# Altium footprint library SignalCommunications.PCBLIB: 466 footprints (part 15 of 30)
Each footprint in its own frame and in the unit in brackets; x right, y up, seen from the top. Pads: shape width x height; smd on the part's side, far side on the other; paste and mask are expansions set on the pad; w line width, h text height; cw(c..) or ccw(c..) is an arc to the next point about the centre after c.
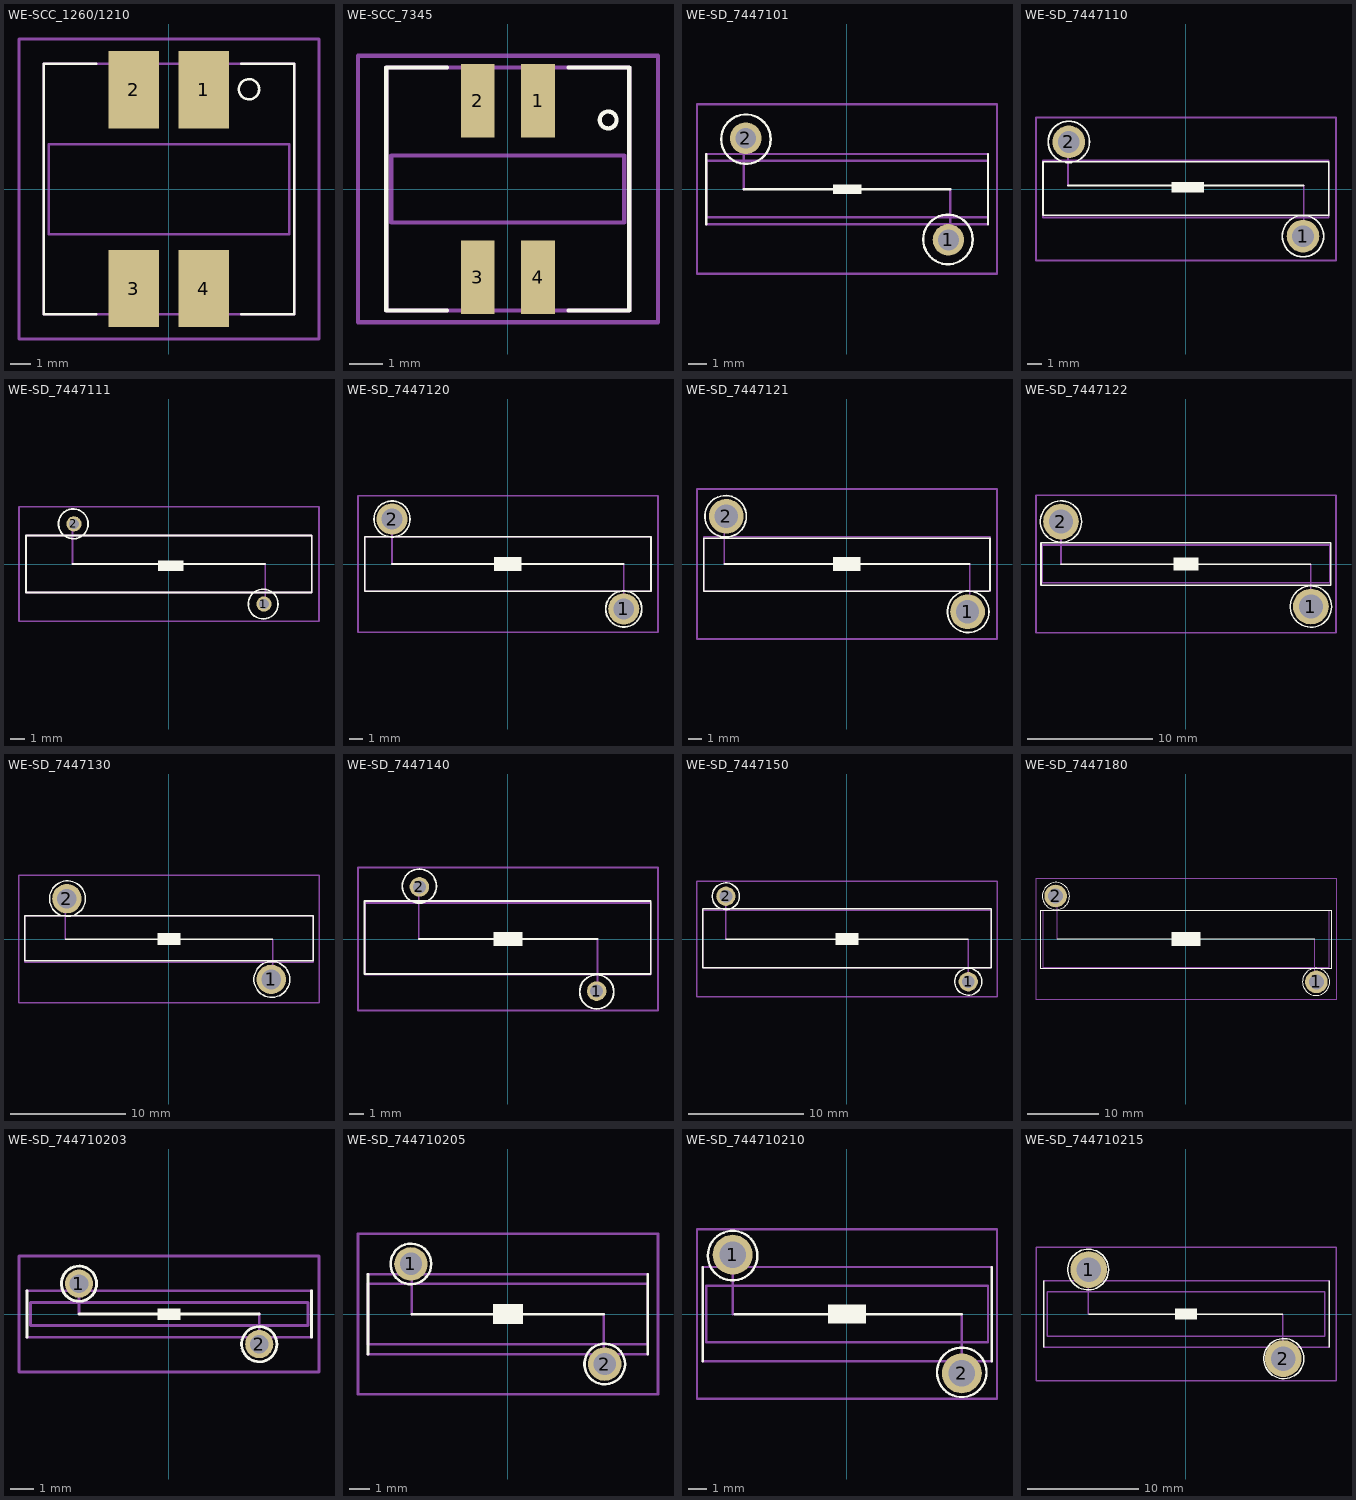
[diagram p14: the footprints below, top view; thin cyan lines are the x and y axes]

## WE-SCC_1260/1210 [mil]
pads (4):
  rect 99x152 smd: 1(69,196) 2(-68.9,196) 3(-68.9,-195.87) 4(69,-195.87)
Top Overlay:
  circle w5: c158,197 r20
  lines w5: -142.72,-246.06 -246.06,-246.06 -246.06,247 -142.72,247 ; 143,-246.06 247,-246.06 247,247 143,247
Mechanical 10:
  lines w5: -236.22,-88.58 -236.22,89 237,89 237,-88.58 -236.22,-88.58
Mechanical 16:
  lines w5: -246.06,-246.06 -246.06,247 247,247 247,-246.06 -246.06,-246.06
  text "1" at 138,99 h77.5
Mechanical 27:
  lines w5: -295.28,-295.28 -295.28,296 296,296 296,-295.28 -295.28,-295.28

## WE-SCC_7345 [mil]
pads (4):
  rect 40x87 smd: 1(36,105) 2(-35.43,105) 3(-35.43,-104.33) 4(36,-104.33)
Top Overlay:
  circle w5: c119,82 r10
  lines w5: -71.85,-143.7 -143.7,-143.7 -143.7,144 -71.85,144 ; 72,-143.7 144,-143.7 144,144 72,144
Mechanical 10:
  lines w5: -137.8,-39.37 -137.8,40 138,40 138,-39.37 -137.8,-39.37
Mechanical 16:
  lines w5: -143.7,-143.7 144,-143.7 144,144 -143.7,144 -143.7,-143.7
Mechanical 27:
  lines w5: -177.17,-157.48 -177.17,158 178,158 178,-157.48 -177.17,-157.48

## WE-SD_7447101 [mil]
pads (2):
  round 66 hole 44: 1(213,-106.3) 2(-212.6,107)
Top Overlay:
  circle w5: c212,-105.51 r52
  circle w5: c-212.2,105 r52
  region: 30,10 -29.53,10 -29.53,-9.84 30,-9.84
  lines w5: -295.28,-73.23 -295.28,74 ; -216.54,0 217,0 ; 296,-73.23 296,74
Mechanical 10:
  lines w5: -295.28,-59.06 -295.28,60 296,60 296,-59.06 -295.28,-59.06
Mechanical 16:
  lines w5: -295.28,-73.23 296,-73.23 ; -295.28,74 296,74 ; -216.54,0 -216.54,109 ; 217,-108.27 217,0
Mechanical 27:
  lines w5: -314.96,-177.17 -314.96,178 315,178 315,-177.17 -314.96,-177.17

## WE-SD_7447110 [mil]
pads (2):
  round 90 hole 60: 1(323,-129.92) 2(-322.83,130)
Top Overlay:
  circle w5: c323,-129.92 r57
  circle w5: c-322.83,130 r57
  region: 50,20 -39.37,20 -39.37,-9.84 50,-9.84
  lines w5: -324.8,10 325,10 ; -393.7,-72.05 -393.7,75 394,75 394,-72.83 -393.7,-72.05
Mechanical 10:
  lines w5: -393.7,-78.74 -393.7,79 394,79 394,-78.74 -393.7,-78.74
Mechanical 16:
  lines w5: -324.8,10 -324.8,128 ; 325,-127.95 325,10
Mechanical 27:
  lines w5: -413.39,-196.85 414,-196.85 414,197 -413.39,197 -413.39,-196.85

## WE-SD_7447111 [mil]
pads (2):
  round 42 hole 28: 1(262,-110.24) 2(-261.81,111)
Top Overlay:
  circle w5: c260,-110.24 r41
  circle w5: c-263.78,111 r41
  region: 40,10 -29.53,10 -29.53,-19.68 40,-19.69
  lines w5: -265.75,0 266,0 ; -393.7,-78.74 -393.7,79 394,79 394,-78.74 -393.7,-78.74
Mechanical 10:
  lines w5: -393.7,-78.74 394,-78.74 394,79 -393.7,79 -393.7,-78.74
Mechanical 16:
  lines w5: -265.75,0 -265.75,109 ; 266,-108.27 266,0
Mechanical 27:
  lines w5: -413.39,-157.48 414,-157.48 414,158 -413.39,158 -413.39,-157.48

## WE-SD_7447120 [mil]
pads (2):
  round 90 hole 60: 1(335,-129.92) 2(-334.65,130)
Top Overlay:
  circle w5: c335,-129.92 r52
  circle w5: c-334.65,130 r52
  region: 40,20 -39.37,20 -39.37,-19.68 40,-19.69
  lines w5: -334.65,0 335,0 ; -413.39,-78.74 -413.39,79 414,79 414,-78.74 -413.39,-78.74
Mechanical 10:
  lines w5: -413.39,-78.74 414,-78.74 414,79 -413.39,79 -413.39,-78.74
Mechanical 16:
  lines w5: -334.65,0 -334.65,138 ; 335,-118.11 335,0
Mechanical 27:
  lines w5: -433.07,-196.85 434,-196.85 434,197 -433.07,197 -433.07,-196.85

## WE-SD_7447121 [mil]
pads (2):
  round 100.5 hole 67: 1(349,-137.8) 2(-348.43,138)
Top Overlay:
  circle w5: c351,-137.8 r60
  circle w5: c-350.39,138 r60
  region: 40,20 -39.37,20 -39.37,-19.68 40,-19.69
  lines w5: -354.33,0 355,0 ; 410,-78.74 -413.39,-78.74 -413.39,75 414,75 414,-76.77
Mechanical 10:
  lines w5: -413.39,-78.74 414,-78.74 414,79 -413.39,79 -413.39,-78.74
Mechanical 16:
  lines w5: -354.33,0 -354.33,138 ; 355,-137.8 355,0
Mechanical 27:
  lines w5: -433.07,-216.54 434,-216.54 434,217 -433.07,217 -433.07,-216.54

## WE-SD_7447122 [mil]
pads (2):
  round 112.5 hole 75: 1(394,-133.86) 2(-393.7,134)
Top Overlay:
  circle w5: c394,-133.86 r65
  circle w5: c-393.7,134 r65
  region: 40,20 -39.37,20 -39.37,-19.68 40,-19.69
  lines w5: -393.7,0 394,0 ; -456.69,-66.93 -456.69,67 457,67 457,-66.93 -456.69,-66.93
Mechanical 10:
  lines w5: -452.76,-59.06 453,-59.06 453,60 -452.76,60 -452.76,-59.06
Mechanical 16:
  lines w5: -393.7,0 -393.7,138 ; 394,-137.8 394,0
Mechanical 27:
  lines w5: -472.44,-216.54 473,-216.54 473,217 -472.44,217 -472.44,-216.54

## WE-SD_7447130 [mil]
pads (2):
  round 100.5 hole 67: 1(349,-137.8) 2(-348.43,138)
Top Overlay:
  circle w5: c351,-137.8 r61
  circle w5: c-346.46,138 r61
  region: 40,20 -39.37,20 -39.37,-19.68 40,-19.69
  lines w5: -354.33,0 355,0 ; -492.13,-74.8 -492.13,79 493,79 493,-74.8 -492.13,-74.8
Mechanical 10:
  lines w5: -492.13,-78.74 493,-78.74 493,79 -492.13,79 -492.13,-78.74
Mechanical 16:
  lines w5: -354.33,0 -354.33,138 ; 355,-137.8 355,0
Mechanical 27:
  lines w5: -511.81,-216.54 512,-216.54 512,217 -511.81,217 -511.81,-216.54

## WE-SD_7447140 [mil]
pads (2):
  round 54 hole 36: 1(245,-143.7) 2(-244.09,144)
Top Overlay:
  circle w5: c245,-145.67 r47
  circle w5: c-244.09,146 r47
  region: 40,20 -39.37,20 -39.37,-19.68 40,-19.69
  lines w5: -246.06,0 247,0 ; -395.67,-96.46 -395.67,105 394,105 394,-96.46 -395.67,-96.46
Mechanical 10:
  lines w5: -393.7,-98.43 394,-98.43 394,99 -393.7,99 -393.7,-98.43
Mechanical 16:
  lines w5: -246.06,0 -246.06,138 ; 247,-147.64 247,0
Mechanical 27:
  lines w5: -413.39,-196.85 414,-196.85 414,197 -413.39,197 -413.39,-196.85

## WE-SD_7447150 [mil]
pads (2):
  round 66 hole 44: 1(414,-145.67) 2(-413.39,146)
Top Overlay:
  circle w5: c414,-145.67 r46
  circle w5: c-413.39,146 r46
  region: 40,20 -39.37,20 -39.37,-19.68 40,-19.69
  lines w5: -413.39,0 414,0 ; -492.13,-98.43 493,-98.43 493,103 -492.13,103 -492.13,-98.43
Mechanical 10:
  lines w5: -492.13,-98.43 493,-98.43 493,99 -492.13,99 -492.13,-98.43
Mechanical 16:
  lines w5: -413.39,0 -413.39,138 ; 414,-137.8 414,0
Mechanical 27:
  lines w5: -511.81,-196.85 512,-196.85 512,197 -511.81,197 -511.81,-196.85

## WE-SD_7447180 [mil]
pads (2):
  round 124.5 hole 83: 1(719,-236.22) 2(-718.5,237)
Top Overlay:
  circle w5: c717,-236.22 r75
  circle w5: c-716.54,237 r75
  region: 79,40 -78.74,40 -78.74,-39.37 79,-39.37
  lines w5: -708.66,0 709,0 ; -799.21,-163.39 800,-163.39 800,160 -799.21,160 -799.21,-163.39
Mechanical 10:
  lines w5: -787.4,-157.48 788,-157.48 788,158 -787.4,158 -787.4,-157.48
Mechanical 16:
  lines w5: -708.66,0 -708.66,237 ; 709,-236.22 709,0
Mechanical 27:
  lines w5: -826.77,-334.65 827,-334.65 827,335 -826.77,335 -826.77,-334.65

## WE-SD_744710203 [mil]
pads (2):
  round 48 hole 32: 1(-153.54,52) 2(154,-51.18)
Top Overlay:
  circle w5: c154,-51.18 r30
  circle w5: c-153.54,52 r30
  rectangle: -19.68,-9.84 20,10
  lines w5: -242.13,-39.37 -242.13,40 ; -153.54,0 154,0 ; 243,-39.37 243,40
Mechanical 10:
  lines w5: -236.22,-19.68 237,-19.68 237,20 -236.22,20 -236.22,-19.68
Mechanical 16:
  lines w5: -242.13,-39.37 243,-39.37 ; -242.13,40 243,40 ; -153.54,0 -153.54,48 ; 154,-51.18 154,0
Mechanical 27:
  lines w5: -255.91,-98.43 256,-98.43 256,99 -255.91,99 -255.91,-98.43

## WE-SD_744710205 [mil]
pads (2):
  round 66 hole 44: 1(-190.94,99) 2(191,-98.43)
Top Overlay:
  circle w5: c-190.94,99 r40
  circle w5: c191,-98.43 r40
  rectangle: -29.53,-19.68 30,20
  lines w5: -275.59,-78.74 -275.59,79 ; -188.98,0 189,0 ; 276,-78.74 276,79
Mechanical 10:
  lines w5: -275.59,-59.06 276,-59.06 276,60 -275.59,60 -275.59,-59.06
Mechanical 16:
  lines w5: -275.59,-78.74 276,-78.74 ; -275.59,79 276,79 ; -188.98,0 -188.98,95 ; 189,-94.49 189,0
Mechanical 27:
  lines w5: -295.28,-157.48 296,-157.48 296,158 -295.28,158 -295.28,-157.48

## WE-SD_744710210 [mil]
pads (2):
  round 84 hole 56: 1(-240.16,125) 2(241,-124.02)
Top Overlay:
  circle w5: c-240.16,123 r52
  circle w5: c241,-122.05 r52
  rectangle: -39.37,-19.68 40,20
  lines w5: -303.15,-98.43 -303.15,99 ; -236.22,0 241,0 ; 304,-98.43 304,99
Mechanical 10:
  lines w5: -295.28,-59.06 296,-59.06 296,60 -295.28,60 -295.28,-59.06
Mechanical 16:
  lines w5: -303.15,-98.43 304,-98.43 ; -303.15,99 304,99 ; -240.16,0 -240.16,123 ; 241,-122.05 241,-3.94
Mechanical 27:
  lines w5: -314.96,-177.17 315,-177.17 315,178 -314.96,178 -314.96,-177.17

## WE-SD_744710215 [mil]
pads (2):
  round 130.5 hole 87: 1(-344.49,158) 2(345,-157.48)
Top Overlay:
  circle w5: c-346.46,158 r72
  circle w5: c347,-157.87 r71
  rectangle: -39.37,-19.68 40,20
  lines w5: -503.94,-118.11 -503.94,119 ; -344.49,0 343,0 ; 508,-118.11 508,119
Mechanical 10:
  lines w5: -492.13,-78.74 493,-78.74 493,79 -492.13,79 -492.13,-78.74
Mechanical 16:
  lines w5: -503.94,-118.11 508,-118.11 ; -503.94,119 508,119 ; -346.46,0 -346.46,154 ; 343,-157.48 343,0
Mechanical 27:
  lines w5: -531.5,-236.22 532,-236.22 532,237 -531.5,237 -531.5,-236.22